# EAGLE library part MICROCHIP_24AA025UIDT-I-OT (library Upverter Library)
MCHP-24AA025E64_025UID-SOT-23-6
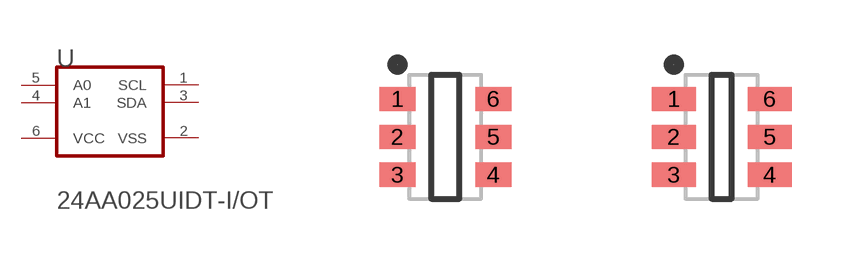
[diagram p0: symbol with the pads of MICROCHIP_24AA025UIDT-I-OT_0; footprints MICROCHIP_24AA025UIDT-I-OT_0, MICROCHIP_24AA025UIDT-I-OT_1]

Designator prefix U

## MICROCHIP_24AA025UIDT-I-OTMICROCHIP_24AA025UIDT-I-OT_0_0 (Component_Link_1_Description: Manufacturer URL; Component_Link_1_URL: http://www.microchip.com/; Component_Link_3_Description: Package Specification; Component_Link_3_URL: http://www.microchip.com/stellent/groups/techpub_sg/documents/packagingspec/en012702.pdf; Datasheet_Version: Rev. A; MF: Microchip; MPN: 24AA025UIDT-I/OT; Mounting_Technology: Surface Mount; Package_Description: 6-Lead Plastic Small Outline Transistor, 2.9 x 1.55 mm Body, 0.95 mm Pitch; Package_Version: C04-028B, 12/2012; Packing: Tape and Reel; VCC_Range: 1.7 to 5.5 V; ciiva_ids: 10487324; datasheet: http://ww1.microchip.com/downloads/en/DeviceDoc/20005202A.pdf; footprint_variant_name_0: Level C; footprint_variant_name_1: Level B; footprint_variant_name_2: Level A; import_ts: 1521848236; imported: yes; imported_from: vault; package: SOT-23-OT6; pin_0_0_0_inside_edge: clock; prefix: U; release_date: 1396429825; vault_guid: CCA89C8B-EAF5-4390-8FC9-B32306EB34DA; vault_revision: 1D9282C6-A0DC-4745-AC75-9C8B638F0C7B)  [MICROCHIP_24AA025UIDT-I-OT_0]
1  SCL  in
2  VSS  pwr
3  SDA
4  A1  in
5  A0  in
6  VCC  pwr

## MICROCHIP_24AA025UIDT-I-OTMICROCHIP_24AA025UIDT-I-OT_0_1 (Component_Link_1_Description: Manufacturer URL; Component_Link_1_URL: http://www.microchip.com/; Component_Link_3_Description: Package Specification; Component_Link_3_URL: http://www.microchip.com/stellent/groups/techpub_sg/documents/packagingspec/en012702.pdf; Datasheet_Version: Rev. A; MF: Microchip; MPN: 24AA025UIDT-I/OT; Mounting_Technology: Surface Mount; Package_Description: 6-Lead Plastic Small Outline Transistor, 2.9 x 1.55 mm Body, 0.95 mm Pitch; Package_Version: C04-028B, 12/2012; Packing: Tape and Reel; VCC_Range: 1.7 to 5.5 V; ciiva_ids: 10487324; datasheet: http://ww1.microchip.com/downloads/en/DeviceDoc/20005202A.pdf; footprint_variant_name_0: Level C; footprint_variant_name_1: Level B; footprint_variant_name_2: Level A; import_ts: 1521848236; imported: yes; imported_from: vault; package: SOT-23-OT6; pin_0_0_0_inside_edge: clock; prefix: U; release_date: 1396429825; vault_guid: CCA89C8B-EAF5-4390-8FC9-B32306EB34DA; vault_revision: 1D9282C6-A0DC-4745-AC75-9C8B638F0C7B)  [MICROCHIP_24AA025UIDT-I-OT_1]
Pads as for MICROCHIP_24AA025UIDT-I-OT_0

## MICROCHIP_24AA025UIDT-I-OTMICROCHIP_24AA025UIDT-I-OT_0_2 (Component_Link_1_Description: Manufacturer URL; Component_Link_1_URL: http://www.microchip.com/; Component_Link_3_Description: Package Specification; Component_Link_3_URL: http://www.microchip.com/stellent/groups/techpub_sg/documents/packagingspec/en012702.pdf; Datasheet_Version: Rev. A; MF: Microchip; MPN: 24AA025UIDT-I/OT; Mounting_Technology: Surface Mount; Package_Description: 6-Lead Plastic Small Outline Transistor, 2.9 x 1.55 mm Body, 0.95 mm Pitch; Package_Version: C04-028B, 12/2012; Packing: Tape and Reel; VCC_Range: 1.7 to 5.5 V; ciiva_ids: 10487324; datasheet: http://ww1.microchip.com/downloads/en/DeviceDoc/20005202A.pdf; footprint_variant_name_0: Level C; footprint_variant_name_1: Level B; footprint_variant_name_2: Level A; import_ts: 1521848236; imported: yes; imported_from: vault; package: SOT-23-OT6; pin_0_0_0_inside_edge: clock; prefix: U; release_date: 1396429825; vault_guid: CCA89C8B-EAF5-4390-8FC9-B32306EB34DA; vault_revision: 1D9282C6-A0DC-4745-AC75-9C8B638F0C7B)  [MICROCHIP_24AA025UIDT-I-OT_2]
Pads as for MICROCHIP_24AA025UIDT-I-OT_0

## Footprint MICROCHIP_24AA025UIDT-I-OT_0 (pad centres in mm)
MCHP-24AA025E64_025UID-SOT-23-6
smd 0.9 x 0.6: 1 -1.2,0.95; 2 -1.2,0; 3 -1.2,-0.95; 4 1.2,-0.95; 5 1.2,0; 6 1.2,0.95

## Footprint MICROCHIP_24AA025UIDT-I-OT_1 (pad centres in mm)
MCHP-24AA025E64_025UID-SOT-23-6
smd 1.1 x 0.6: 1 -1.2,0.95; 2 -1.2,0; 3 -1.2,-0.95; 4 1.2,-0.95; 5 1.2,0; 6 1.2,0.95

## Footprint MICROCHIP_24AA025UIDT-I-OT_2 (pad centres in mm)
MCHP-24AA025E64_025UID-SOT-23-6
smd 1.3 x 0.7: 1 -1.2,0.95; 2 -1.2,0; 3 -1.2,-0.95; 4 1.2,-0.95; 5 1.2,0; 6 1.2,0.95